# Altium integrated library LM358P.IntLib: 1 symbol
Pins are listed as number, name and electrical type; pins without a type are passive.

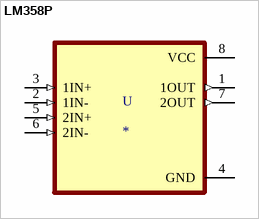
[diagram p0: symbol LM358P]

## LM358P
designator U
Dual Operational Amplifiers; MP: LM358P; MF: Texas Instruments; Package: PDIP-8 Texas Instruments; DigiKey-Purchase-URL: https://snapeda.com/shop?store=DigiKey&id=559457; Arrow_Electronics-Purchase-URL: https://snapeda.com/shop?store=Arrow+Electronics&id=559457; Price: None; Texas_Instruments-Purchase-URL: https://snapeda.com/shop?store=Texas+Instruments&id=559457; Value: *; Availability: Unavailable; SnapEDA_Link: https://www.snapeda.com/parts/LM358P/Texas%20Instruments/view-part/559457/?ref=snap; Mouser-Purchase-URL: https://snapeda.com/shop?store=Mouser&id=559457
footprint DIP794W45P254L959H508Q8
pins: 1 1OUT (out), 2 1IN- (in), 3 1IN+ (in), 4 GND (power), 5 2IN+ (in), 6 2IN- (in), 7 2OUT (out), 8 VCC (power)